# Altium footprint library MOD_NXE2.PcbLib: 1 footprints
Each footprint in its own frame and in the unit in brackets; x right, y up, seen from the top. Pads: shape width x height; smd on the part's side, far side on the other; paste and mask are expansions set on the pad; w line width, h text height; cw(c..) or ccw(c..) is an arc to the next point about the centre after c.
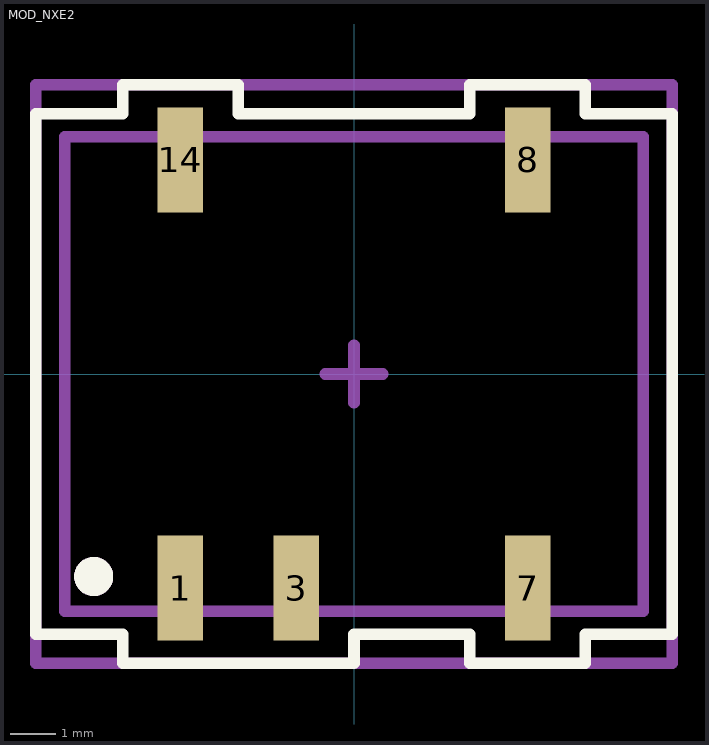
[diagram p0: the footprint, top view; thin cyan lines are the x and y axes]

## MOD_NXE2 [mm]
pads (5):
  rect 1x2.3 smd: 1(-3.81,-4.7) 3(-1.27,-4.7) 7(3.81,-4.7) 8(3.81,4.7) 14(-3.81,4.7)
Top Overlay:
  circle w0.5: c-5.715,-4.445 r0.18
  lines w0.254: -6.985,-5.715 -5.08,-5.715 -5.08,-6.35 0,-6.35 0,-5.715 2.54,-5.715 2.54,-6.35 5.08,-6.35 5.08,-5.715 6.985,-5.715 6.985,5.715 5.08,5.715 5.08,6.35 2.54,6.35 2.54,5.715 -2.54,5.715 -2.54,6.35 -5.08,6.35 -5.08,5.715 -6.985,5.715 -6.985,-5.715
Mechanical 13:
  circle w0.5: c-5.715,-4.445 r0.18
  lines w0.254: -6.35,-5.207 -6.35,5.207 6.35,5.207 6.35,-5.207 -6.35,-5.207
Mechanical 15:
  lines w0.254: -0.635,0 0.635,0 ; 0,-0.635 0,0.635 ; -6.985,-6.35 6.985,-6.35 6.985,6.35 -6.985,6.35 -6.985,-6.35
Mechanical 17:
  text "'.Designator'" at -2.54,-0.254 h0.64
Mechanical 19:
  text "'.Comment'" at -2.54,-1.524 h0.64
3D body "mps_dcdc_nxe2s_mc_a.step": height 4.41, standoff 0, extent -6.35,-5.207 6.35,5.207